# Altium footprint library Research.PcbLib: 103 footprints (part 2 of 7)
Each footprint in its own frame and in the unit in brackets; x right, y up, seen from the top. Pads: shape width x height; smd on the part's side, far side on the other; paste and mask are expansions set on the pad; w line width, h text height; cw(c..) or ccw(c..) is an arc to the next point about the centre after c.
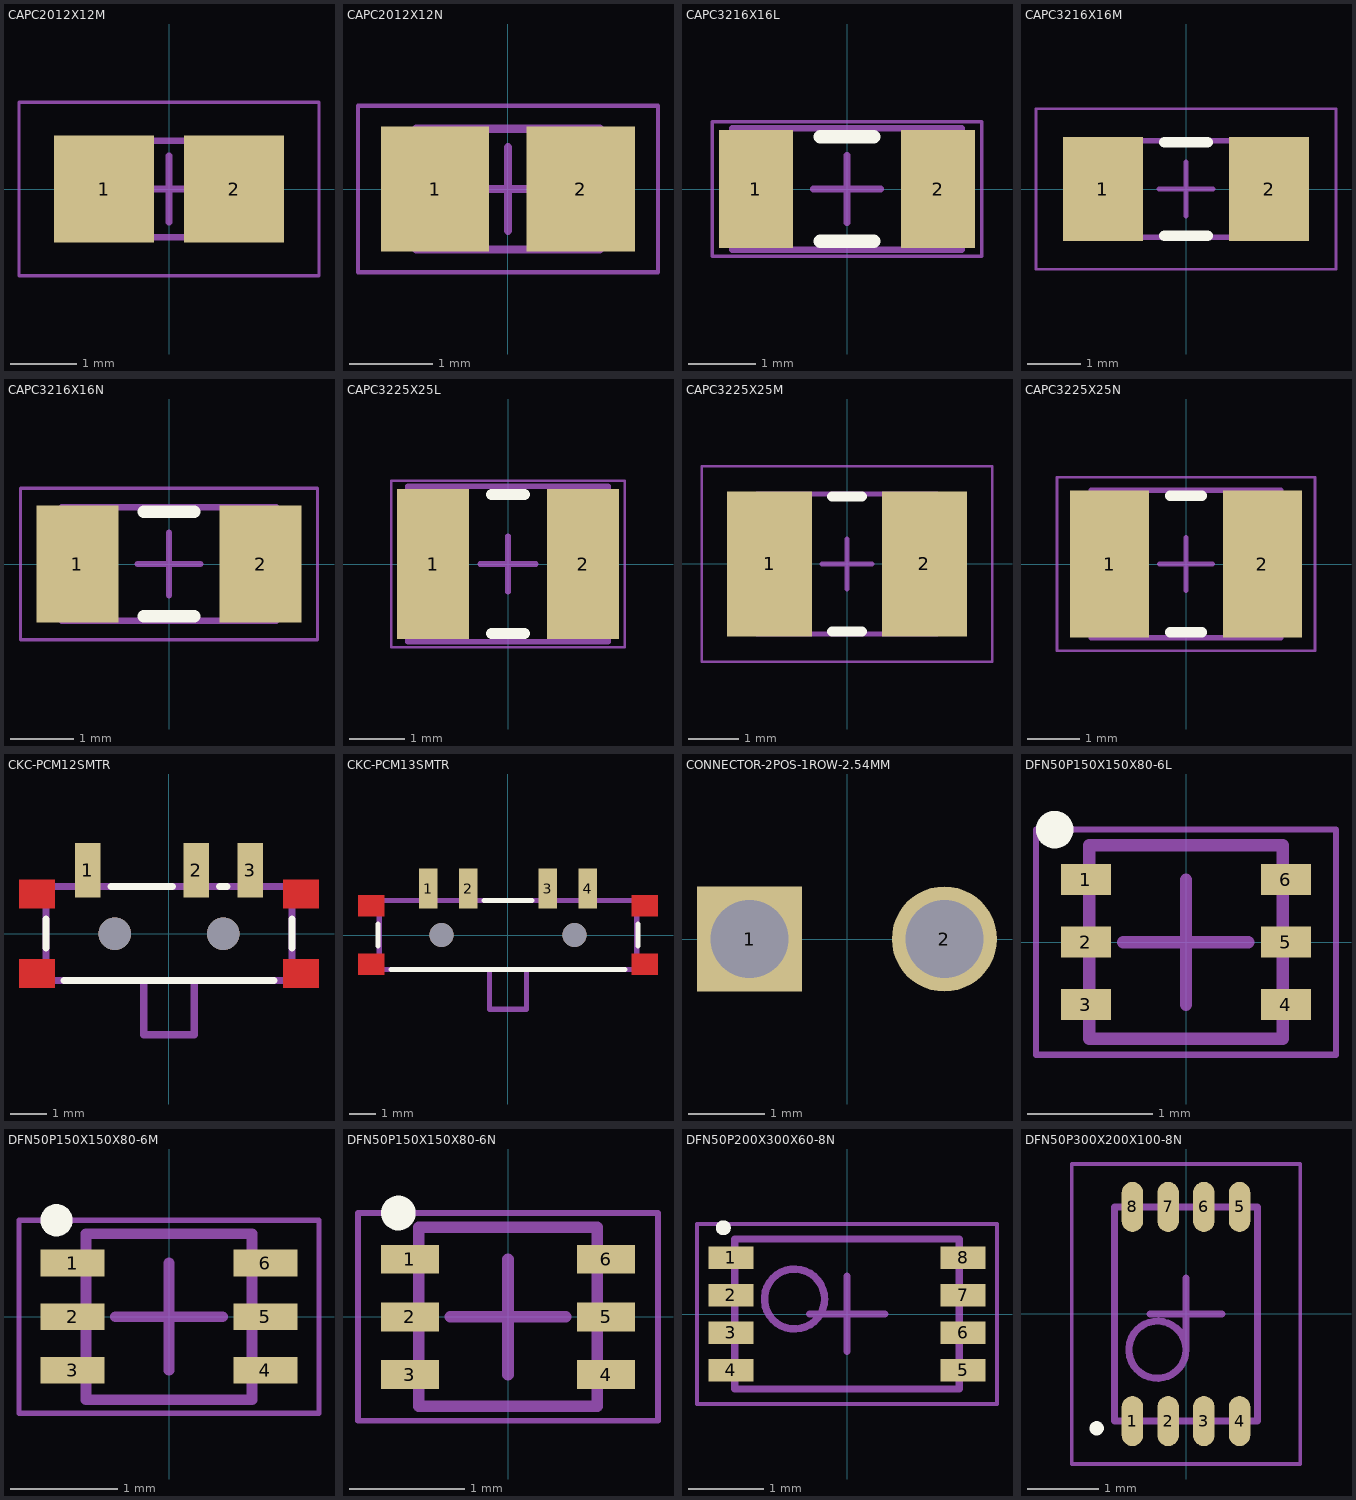
[diagram p1: the footprints below, top view; thin cyan lines are the x and y axes]

## CAPC2012X12M [mm] "Chip Capacitor, 2-Leads, Body 2.00x1.25mm, IPC Low Density"
height 1.25
pads (2):
  rect 1.5x1.6 smd: 1(-0.975,0) 2(0.975,0)
Mechanical 13:
  lines w0.1: -1.1,-0.725 -1.1,0.725 1.1,0.725 1.1,-0.725 -1.1,-0.725
Mechanical 15:
  lines w0.05: -2.25,-1.3 -2.25,1.3 2.25,1.3 2.25,-1.3 -2.25,-1.3
  lines w0.1: -0.5,0 0.5,0 ; 0,-0.5 0,0.5
Mechanical 29:
  text ".Designator" at -0.9,-0.3 h0.5
3D body: height 1.25, standoff 0, extent -0.6,-0.725 0.6,0.725
3D body: height 1.25, standoff 0, extent -1.1,-0.725 -0.6,0.725
3D body: height 1.25, standoff 0, extent 0.6,-0.725 1.1,0.725

## CAPC2012X12N [mm] "Chip Capacitor, 2-Leads, Body 2.00x1.25mm, IPC Medium Density"
height 1.25
pads (2):
  rect 1.3x1.5 smd: 1(-0.875,0) 2(0.875,0)
Mechanical 13:
  lines w0.1: -1.1,-0.725 1.1,-0.725 1.1,0.725 -1.1,0.725 -1.1,-0.725
Mechanical 15:
  lines w0.05: -1.8,-1 1.8,-1 1.8,1 -1.8,1 -1.8,-1
  lines w0.1: -0.5,0 0.5,0 ; 0,-0.5 0,0.5
Mechanical 29:
  text ".Designator" at -0.9,-0.3 h0.5
3D body: height 1.25, standoff 0, extent 0.6,-0.725 1.1,0.725
3D body: height 1.25, standoff 0, extent -1.1,-0.725 -0.6,0.725
3D body: height 1.25, standoff 0, extent -0.6,-0.725 0.6,0.725

## CAPC3216X16L [mm] "Chip Capacitor, 2-Leads, Body 3.20x1.60mm, IPC High Density"
height 1.6
pads (2):
  rect 1.1x1.75 smd: 1(-1.35,0) 2(1.35,0)
Top Overlay:
  lines w0.2: -0.4,-0.775 0.4,-0.775 ; -0.4,0.775 0.4,0.775
Mechanical 13:
  lines w0.1: -1.7,-0.9 -1.7,0.9 1.7,0.9 1.7,-0.9 -1.7,-0.9
Mechanical 15:
  lines w0.05: -2,-1 -2,1 2,1 2,-1 -2,-1
  lines w0.1: -0.5,0 0.5,0 ; 0,-0.5 0,0.5
3D body: height 1.6, standoff 0, extent -1.2,-0.9 1.2,0.9
3D body: height 1.6, standoff 0, extent -1.7,-0.9 -1.2,0.9
3D body: height 1.6, standoff 0, extent 1.2,-0.9 1.7,0.9

## CAPC3216X16M [mm] "Chip Capacitor, 2-Leads, Body 3.20x1.60mm, IPC Low Density"
height 1.6
pads (2):
  rect 1.5x1.95 smd: 1(-1.55,0) 2(1.55,0)
Top Overlay:
  lines w0.2: -0.4,-0.875 0.4,-0.875 ; -0.4,0.875 0.4,0.875
Mechanical 13:
  lines w0.1: -1.7,-0.9 1.7,-0.9 1.7,0.9 -1.7,0.9 -1.7,-0.9
Mechanical 15:
  lines w0.05: -2.8,-1.5 2.8,-1.5 2.8,1.5 -2.8,1.5 -2.8,-1.5
  lines w0.1: -0.5,0 0.5,0 ; 0,-0.5 0,0.5
3D body: height 1.6, standoff 0, extent 1.2,-0.9 1.7,0.9
3D body: height 1.6, standoff 0, extent -1.7,-0.9 -1.2,0.9
3D body: height 1.6, standoff 0, extent -1.2,-0.9 1.2,0.9

## CAPC3216X16N [mm] "Chip Capacitor, 2-Leads, Body 3.20x1.60mm, IPC Medium Density"
height 1.6
pads (2):
  rect 1.3x1.85 smd: 1(-1.45,0) 2(1.45,0)
Top Overlay:
  lines w0.2: -0.4,-0.825 0.4,-0.825 ; -0.4,0.825 0.4,0.825
Mechanical 13:
  lines w0.1: -1.7,-0.9 -1.7,0.9 1.7,0.9 1.7,-0.9 -1.7,-0.9
Mechanical 15:
  lines w0.05: -2.35,-1.2 -2.35,1.2 2.35,1.2 2.35,-1.2 -2.35,-1.2
  lines w0.1: -0.5,0 0.5,0 ; 0,-0.5 0,0.5
3D body: height 1.6, standoff 0, extent -1.2,-0.9 1.2,0.9
3D body: height 1.6, standoff 0, extent -1.7,-0.9 -1.2,0.9
3D body: height 1.6, standoff 0, extent 1.2,-0.9 1.7,0.9

## CAPC3225X25L [mm] "Chip Capacitor, 2-Leads, Body 3.20x2.50mm, IPC High Density"
height 2.5
pads (2):
  rect 1.3x2.7 smd: 1(-1.35,0) 2(1.35,0)
Top Overlay:
  lines w0.2: -0.3,-1.25 0.3,-1.25 ; -0.3,1.25 0.3,1.25
Mechanical 13:
  lines w0.1: -1.8,-1.4 1.8,-1.4 1.8,1.4 -1.8,1.4 -1.8,-1.4
Mechanical 15:
  lines w0.05: -2.1,-1.5 2.1,-1.5 2.1,1.5 -2.1,1.5 -2.1,-1.5
  lines w0.1: -0.5,0 0.5,0 ; 0,-0.5 0,0.5
3D body: height 2.5, standoff 0, extent 1.3,-1.4 1.8,1.4
3D body: height 2.5, standoff 0, extent -1.8,-1.4 -1.3,1.4
3D body: height 2.5, standoff 0, extent -1.3,-1.4 1.3,1.4

## CAPC3225X25M [mm] "Chip Capacitor, 2-Leads, Body 3.20x2.50mm, IPC Low Density"
height 2.5
pads (2):
  rect 1.7x2.9 smd: 1(-1.55,0) 2(1.55,0)
Top Overlay:
  lines w0.2: -0.3,-1.35 0.3,-1.35 ; -0.3,1.35 0.3,1.35
Mechanical 13:
  lines w0.1: -1.8,-1.4 -1.8,1.4 1.8,1.4 1.8,-1.4 -1.8,-1.4
Mechanical 15:
  lines w0.05: -2.9,-1.95 -2.9,1.95 2.9,1.95 2.9,-1.95 -2.9,-1.95
  lines w0.1: -0.5,0 0.5,0 ; 0,-0.5 0,0.5
3D body: height 2.5, standoff 0, extent -1.3,-1.4 1.3,1.4
3D body: height 2.5, standoff 0, extent -1.8,-1.4 -1.3,1.4
3D body: height 2.5, standoff 0, extent 1.3,-1.4 1.8,1.4

## CAPC3225X25N [mm] "Chip Capacitor, 2-Leads, Body 3.20x2.50mm, IPC Medium Density"
height 2.5
pads (2):
  rect 1.5x2.8 smd: 1(-1.45,0) 2(1.45,0)
Top Overlay:
  lines w0.2: -0.3,-1.3 0.3,-1.3 ; -0.3,1.3 0.3,1.3
Mechanical 13:
  lines w0.1: -1.8,-1.4 1.8,-1.4 1.8,1.4 -1.8,1.4 -1.8,-1.4
Mechanical 15:
  lines w0.05: -2.45,-1.65 2.45,-1.65 2.45,1.65 -2.45,1.65 -2.45,-1.65
  lines w0.1: -0.5,0 0.5,0 ; 0,-0.5 0,0.5
3D body: height 2.5, standoff 0, extent 1.3,-1.4 1.8,1.4
3D body: height 2.5, standoff 0, extent -1.8,-1.4 -1.3,1.4
3D body: height 2.5, standoff 0, extent -1.3,-1.4 1.3,1.4

## CKC-PCM12SMTR [mm] "C&K Components Ultraminiature Surface Mount Slide Switch"
height 1.4
pads (3):
  rect 0.7x1.5 smd: 1(-2.25,1.75) 2(0.75,1.75) 3(2.25,1.75)
via -1.5,0 diameter 0.9 hole 0.9
via 1.5,0 diameter 0.9 hole 0.9
Top Layer:
  rectangle: 3.15,0.7 4.15,1.5
  region: -3.15,-0.7 -4.15,-0.7 -4.15,-1.5 -3.15,-1.5
  region: -3.15,1.5 -4.15,1.5 -4.15,0.7 -3.15,0.7
  rectangle: 3.15,-1.5 4.15,-0.7
Top Overlay:
  lines w0.2: -3.4,-0.4 -3.4,0.4 ; -2.9,-1.3 2.9,-1.3 ; -1.6,1.3 0.1,1.3 ; 1.4,1.3 1.6,1.3 ; 3.4,-0.4 3.4,0.4
Mechanical 13:
  lines w0.2: -0.7,-1.3 -0.7,-2.8 0.7,-2.8 0.7,-1.3 ; -3.4,-1.3 -3.4,1.3 3.4,1.3 3.4,-1.3 -3.4,-1.3
Mechanical 29:
  text ".Designator" at -3.1,-1 h1
3D body: height 1.2, standoff 0.4, extent -0.7,-2.8 0.7,-1.3
3D body: height 1.4, standoff 0, extent -3.4,-1.3 3.4,1.3

## CKC-PCM13SMTR [mm] "C&K Components Ultraminiature Surface Mount Slide Switch"
height 1.4
pads (4):
  rect 0.7x1.5 smd: 1(-3,1.75) 2(-1.5,1.75) 3(1.5,1.75) 4(3,1.75)
via -2.5,0 diameter 0.9 hole 0.9
via 2.5,0 diameter 0.9 hole 0.9
Top Layer:
  rectangle: 4.65,0.7 5.65,1.5
  region: -4.65,-0.7 -5.65,-0.7 -5.65,-1.5 -4.65,-1.5
  region: -4.65,1.5 -5.65,1.5 -5.65,0.7 -4.65,0.7
  rectangle: 4.65,-1.5 5.65,-0.7
Top Overlay:
  lines w0.2: -4.9,-0.4 -4.9,0.4 ; -4.4,-1.3 4.4,-1.3 ; -0.9,1.3 0.9,1.3 ; 4.9,-0.4 4.9,0.4
Mechanical 13:
  lines w0.2: -0.7,-1.3 -0.7,-2.8 0.7,-2.8 0.7,-1.3 ; -4.85,-1.3 -4.85,1.3 4.85,1.3 4.85,-1.3 -4.85,-1.3
Mechanical 29:
  text ".Designator" at -3.1,-1 h1
3D body: height 1.2, standoff 0.4, extent -0.7,-2.8 0.7,-1.3
3D body: height 1.4, standoff 0, extent -4.85,-1.3 4.85,1.3

## CONNECTOR-2POS-1ROW-2.54MM [mil] "Connector, 2 Positions, 1 Row, 2.54mm Spacing"
pads (2):
  rect 54x54 hole 40: 1(-50,0)
  round 54 hole 40: 2(50,0)

## DFN50P150X150X80-6L [mm] "DFN, 6-Leads, Body 1.50x1.50mm, Pitch 0.50mm, IPC High Density"
height 0.8
pads (6):
  rect 0.4x0.25 smd: 1(-0.8,0.5) 2(-0.8,0) 3(-0.8,-0.5) 4(0.8,-0.5) 5(0.8,0) 6(0.8,0.5)
Top Overlay:
  circle w0.2: c-1.05,0.9 r0.05
Mechanical 13:
  lines w0.1: -0.775,-0.775 -0.775,0.775 0.775,0.775 0.775,-0.775 -0.775,-0.775
Mechanical 15:
  lines w0.05: -1.2,-0.9 -1.2,0.9 1.2,0.9 1.2,-0.9 -1.2,-0.9
  lines w0.1: -0.5,0 0.5,0 ; 0,-0.5 0,0.5
Mechanical 29:
  text ".Designator" at -0.6,-0.6 h0.4
3D body: height 0.8, standoff 0, extent -0.775,-0.775 0.775,0.775

## DFN50P150X150X80-6M [mm] "DFN, 6-Leads, Body 1.50x1.50mm, Pitch 0.50mm, IPC Low Density"
height 0.8
pads (6):
  rect 0.6x0.25 smd: 1(-0.9,0.5) 2(-0.9,0) 3(-0.9,-0.5) 4(0.9,-0.5) 5(0.9,0) 6(0.9,0.5)
Top Overlay:
  circle w0.2: c-1.05,0.9 r0.05
Mechanical 13:
  lines w0.1: -0.775,-0.775 0.775,-0.775 0.775,0.775 -0.775,0.775 -0.775,-0.775
Mechanical 15:
  lines w0.05: -1.4,-0.9 1.4,-0.9 1.4,0.9 -1.4,0.9 -1.4,-0.9
  lines w0.1: -0.5,0 0.5,0 ; 0,-0.5 0,0.5
Mechanical 29:
  text ".Designator" at -0.6,-0.6 h0.4
3D body: height 0.8, standoff 0, extent -0.775,-0.775 0.775,0.775

## DFN50P150X150X80-6N [mm] "DFN, 6-Leads, Body 1.50x1.50mm, Pitch 0.50mm, IPC Medium Density"
height 0.8
pads (6):
  rect 0.5x0.25 smd: 1(-0.85,0.5) 2(-0.85,0) 3(-0.85,-0.5) 4(0.85,-0.5) 5(0.85,0) 6(0.85,0.5)
Top Overlay:
  circle w0.2: c-0.95,0.9 r0.05
Mechanical 13:
  lines w0.1: -0.775,-0.775 0.775,-0.775 0.775,0.775 -0.775,0.775 -0.775,-0.775
Mechanical 15:
  lines w0.05: -1.3,-0.9 1.3,-0.9 1.3,0.9 -1.3,0.9 -1.3,-0.9
  lines w0.1: -0.5,0 0.5,0 ; 0,-0.5 0,0.5
Mechanical 29:
  text ".Designator" at -0.6,-0.6 h0.4
3D body: height 0.8, standoff 0, extent -0.775,-0.775 0.775,0.775

## DFN50P200X300X60-8N [mm] "DFN, 8-Leads, Body 2.00x3.00mm, Pitch 0.50mm, IPC Medium Density"
height 0.6
pads (8):
  rect 0.6x0.3 smd: 1(-1.55,0.75) 2(-1.55,0.25) 3(-1.55,-0.25) 4(-1.55,-0.75) 5(1.55,-0.75) 6(1.55,-0.25) 7(1.55,0.25) 8(1.55,0.75)
Top Overlay:
  circle w0.1: c-1.65,1.15 r0.05
Mechanical 13:
  circle w0.1: c-0.7,0.2 r0.4
  lines w0.1: -1.5,-1 -1.5,1 1.5,1 1.5,-1 -1.5,-1
Mechanical 15:
  lines w0.05: -2,-1.2 -2,1.2 2,1.2 2,-1.2 -2,-1.2
  lines w0.1: -0.5,0 0.5,0 ; 0,-0.5 0,0.5
Mechanical 29:
  text ".Designator" at -1.3,-0.8 h0.4
3D body: height 0.6, standoff 0, extent -1.5,-1 1.5,1

## DFN50P300X200X100-8N [mm] "QFN, 8-Leads, Body 3.00x2.00mm, Pitch 0.50mm, IPC Medium Density"
height 1
pads (8):
  oval 0.3x0.7 smd: 1(-0.75,-1.5) 2(-0.25,-1.5) 3(0.25,-1.5) 4(0.75,-1.5) 5(0.75,1.5) 6(0.25,1.5) 7(-0.25,1.5) 8(-0.75,1.5)
Top Overlay:
  circle w0.1: c-1.25,-1.6 r0.05
Mechanical 13:
  circle w0.1: c-0.4,-0.5 r0.4
  lines w0.1: -1,-1.5 1,-1.5 1,1.5 -1,1.5 -1,-1.5
Mechanical 15:
  lines w0.05: -1.6,-2.1 1.6,-2.1 1.6,2.1 -1.6,2.1 -1.6,-2.1
  lines w0.1: -0.5,0 0.5,0 ; 0,-0.5 0,0.5
Mechanical 29:
  text ".Designator" at -0.8,0.9 h0.4
3D body: height 1, standoff 0, extent -1,-1.5 1,1.5